# EAGLE library part XCL205 (library torexsemi)
step up DC-DC PRODUCT CLASSIFICATION ●Ordering Information XCL205①②③④⑤⑥-⑦(*1) Fixed PWM control XCL206①②③④⑤⑥-⑦(*1) PWM / PFM automatic switching control XCL207①②③④⑤⑥-⑦(*1) Manual Mode Selection Pin (Semi-custom) DESIGNATOR ITEM SYMBOL DESCRIPTION ① Functions selection (All CE active high) Fixed Output Voltage A VIN≧2.0V, No CL auto discharge, Standard soft-start B VIN≧2.0V, Fixed Output Voltage CL auto discharge, High speed soft-start C VIN≧2.0V, Fixed Output Voltage CL auto discharge, Standard soft-start G VIN≧1.8V, Fixed Output Voltage CL auto discharge, High speed soft-start Output Voltage External Setting F VIN≧1.8V, CL auto discharge, High speed soft-start ②③ Fixed Output Voltage 0~9 A~M Output voltage options e.g. 1.2V → ②=1, ③=2 1.25V → ②=1, ③=C 0.05V increments : 0.05=A, 0.15=B, 0.25=C, 0.35=D, 0.45=E, 0.55=F, 0.65=H, 0.75=K, 0.85=L, 0.95=M Output Voltage External Setting 08 External Setting 0.8V ( F type) ④ Oscillation Frequency 3 3.0MHz ⑤⑥-⑦ Packages (Order Unit) AR-G(*2) CL-2025 (3,000pcs/Reel) CR-G(*3) CL-2025-02(3,000pcs/Reel) (*1) The “-G” suffix denotes Halogen and Antimony free as well as being fully EU RoHS compliant. (*2) AR-G is storage temperature range "-40 ℃ ~ +105 ℃". (*3) CR-G is storage temperature range "-40 ℃ ~ +125 ℃".
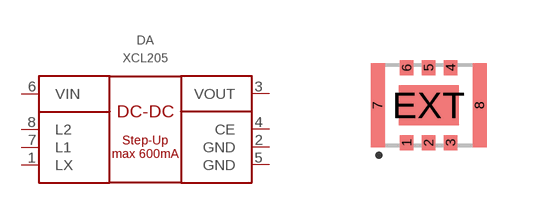
[diagram p1: symbol with the pads of CL-2025-02; footprint CL-2025-02]

Designator prefix DA

## XCL205B183CR-G  [CL-2025-02]
1  LX  pas
2  GND  pwr
3  VOUT  pwr
4  CE  in
5  GND  pwr
6  VIN  pwr
7  L1  pas
8  L2  pas

## Footprint CL-2025-02 (pad centres in mm)
smd 0.34 x 0.375: 1 -0.55,-0.938; 2 0,-0.938; 3 0.55,-0.938; 4 0.55,0.938; 5 0,0.938; 6 -0.55,0.938
smd 0.35 x 2.1: 7 -1.275,0; 8 1.275,0
smd 1.5 x 1: EXT 0,0